# Altium footprint library oscylator_8MHz.PcbLib: 1 footprints
Each footprint in its own frame and in the unit in brackets; x right, y up, seen from the top. Pads: shape width x height; smd on the part's side, far side on the other; paste and mask are expansions set on the pad; w line width, h text height; cw(c..) or ccw(c..) is an arc to the next point about the centre after c.
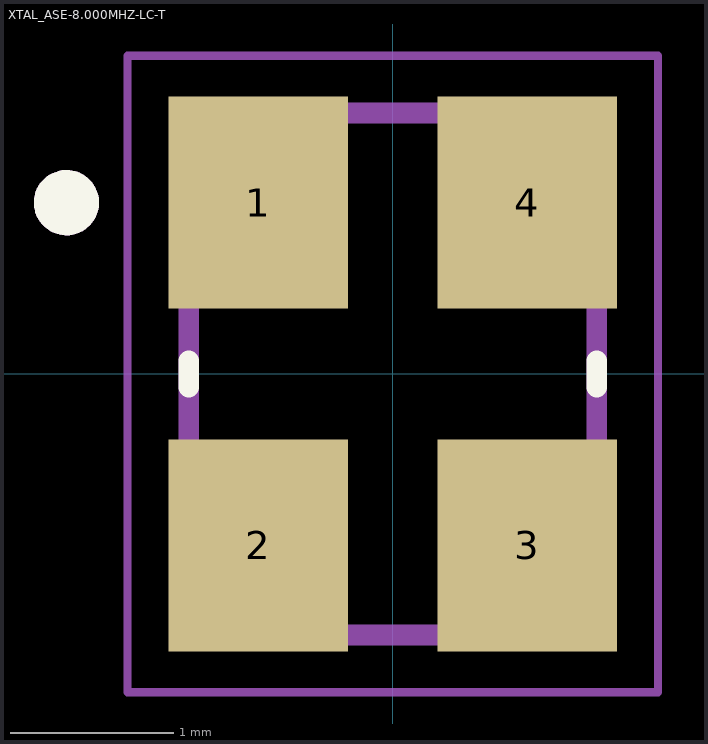
[diagram p0: the footprint, top view; thin cyan lines are the x and y axes]

## XTAL_ASE-8.000MHZ-LC-T [mm]
height 1.2
pads (4):
  rect 1.1x1.3 smd: 1(-0.825,1.05) 2(-0.825,-1.05) 3(0.825,-1.05) 4(0.825,1.05)
Top Overlay:
  circle w0.2: c-2,1.05 r0.1
  lines w0.127: -1.25,-0.08 -1.25,0.08 ; 1.25,-0.08 1.25,0.08
Mechanical 13:
  circle w0.2: c-2,1.05 r0.1
  lines w0.127: -1.25,-1.6 1.25,-1.6 1.25,1.6 -1.25,1.6 -1.25,-1.6
Mechanical 15:
  lines w0.05: -1.625,-1.95 1.625,-1.95 1.625,1.95 -1.625,1.95 -1.625,-1.95
3D body "step_temp.STEP": height 1.2, standoff 0, extent -1.6,-1.25 1.6,1.25